# Altium integrated library 1054301104.IntLib: 1 symbol
Pins are listed as number, name and electrical type; pins without a type are passive.

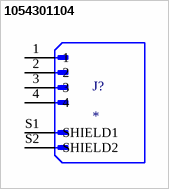
[diagram p0: symbol 1054301104]

## 1054301104
designator J?
Nano-Fit Right-Angle Header, Surface Mount, 2.50mm Pitch, Single Row, 4 Circuits, 0.76Âµm Tin (Sn) Plating, Black, Glow-Wire Capable; MP: 1054301104; Package: None; Value: *; Price: None; Availability: Unavailable
footprint MOLEX_1054301104
pins: 1, 2, 3, 4, S1 SHIELD1, S2 SHIELD2